# Altium footprint library TO92-EBC-OVAL.PcbLib: 1 footprints
Each footprint in its own frame and in the unit in brackets; x right, y up, seen from the top. Pads: shape width x height; smd on the part's side, far side on the other; paste and mask are expansions set on the pad; w line width, h text height; cw(c..) or ccw(c..) is an arc to the next point about the centre after c.
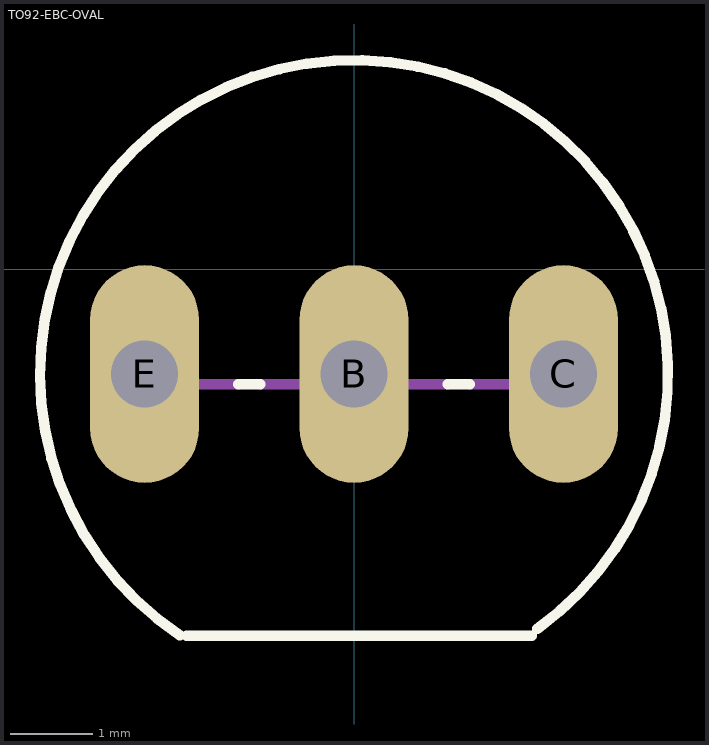
[diagram p0: the footprint, top view; thin cyan lines are the x and y axes]

## TO92-EBC-OVAL [mil]
pads (3):
  oval 52x104 hole 32: B(0,-50) C(100,-50) E(-100,-50)
Top Overlay:
  lines w5: -83.21,-174.81 cw(c0,-50) 87.65,-171.73 ; -80,-175 84.96,-175 ; -55.28,-55 -44.72,-55 ; 44.72,-55 55.28,-55
Mechanical 13:
  lines w5: -104.88,-55 -55.28,-55 ; -95.16,-94.37 cw(c0,-50) -95.16,-5.63 ; -44.72,-55 44.72,-55 ; 55.28,-55 104.88,-55 ; 95.16,-94.37 ccw(c0,-50) 95.16,-5.63
3D body "step_temp.STEP": height 708.66, standoff 0, extent -128.65,-114.17 114.17,128.65